# Altium schematic symbol library TS555IDTTR.SchLib: 1 symbol
Pins are listed as number, name and electrical type; pins without a type are passive.

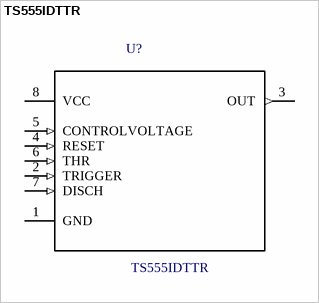
[diagram p0: symbol TS555IDTTR]

## TS555IDTTR
designator U?
/ Standard Timer Single 8-Pin SO T/R /; MF: STMicroelectronics; MP: TS555IDTTR; SnapEDA_Link: https://www.snapeda.com/parts/TS555IDTTR/STMicroelectronics/view-part/?ref=snap; Digi-Key_Purchase_URL: https://www.digikey.com/product-detail/en/stmicroelectronics/TS555IDTTR/497-16404-1-ND/5959811?utm_source=snapeda&utm_medium=aggregator&utm_campaign=symbol; Package: SO-8 STMicroelectronics; Digi-Key_Part_Number: 497-16404-1-ND; Value: *
footprint *SOIC127P600X175-8N
pins: 1 GND, 2 TRIGGER (in), 3 OUT (out), 4 RESET (in), 5 CONTROLVOLTAGE (in), 6 THR (in), 7 DISCH (in), 8 VCC (power)